# EAGLE library part 78F0730_CAB_AX (library Renesas_78k0_0_2)
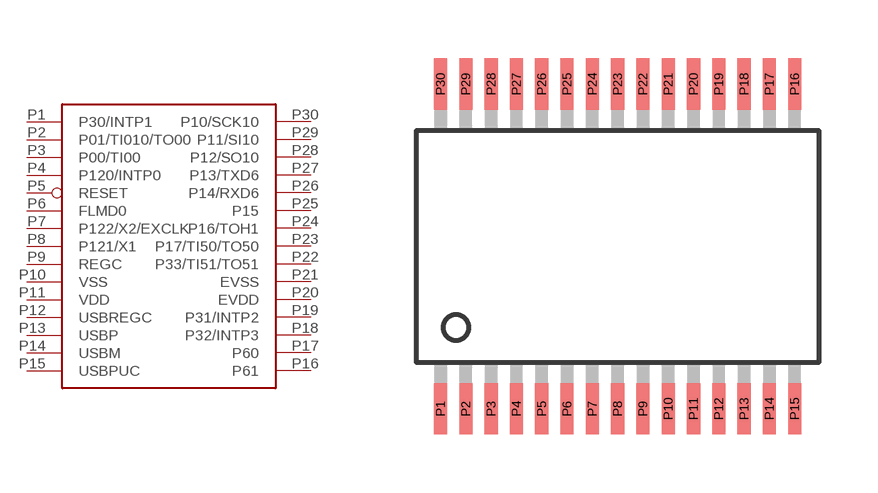
[diagram p1: symbol with the pads of SSOP30; footprint SSOP30]

Designator prefix -

## 78F0730_CAB_AX  [SSOP30]
P1  P30/INTP1
P2  P01/TI010/TO00
P3  P00/TI00
P4  P120/INTP0
P5  RESET
P6  FLMD0
P7  P122/X2/EXCLK
P8  P121/X1
P9  REGC
P10  VSS
P11  VDD
P12  USBREGC
P13  USBP
P14  USBM
P15  USBPUC
P16  P61
P17  P60
P18  P32/INTP3
P19  P31/INTP2
P20  EVDD
P21  EVSS
P22  P33/TI51/TO51
P23  P17/TI50/TO50
P24  P16/TOH1
P25  P15
P26  P14/RXD6
P27  P13/TXD6
P28  P12/SO10
P29  P11/SI10
P30  P10/SCK10

## Footprint SSOP30 (pad centres in mm)
smd 0.34 x 1.32: P1 -4.296,-4.423; P2 -3.646,-4.423; P3 -2.996,-4.423; P4 -2.346,-4.423; P5 -1.696,-4.423; P6 -1.046,-4.423; P7 -0.396,-4.423; P8 0.254,-4.423; P9 0.904,-4.423; P10 1.554,-4.423; P11 2.204,-4.423; P12 2.854,-4.423; P13 3.504,-4.423; P14 4.154,-4.423; P15 4.804,-4.423; P16 4.804,3.915; P17 4.154,3.915; P18 3.504,3.915; P19 2.854,3.915; P20 2.204,3.915; P21 1.554,3.915; P22 0.904,3.915; P23 0.254,3.915; P24 -0.396,3.915; P25 -1.046,3.915; P26 -1.696,3.915; P27 -2.346,3.915; P28 -2.996,3.915; P29 -3.646,3.915; P30 -4.296,3.915